# EAGLE library part TOUCH-AT42QT1070-SSU(SOIC14) (library Seeed-OPL-sensor)
310010048
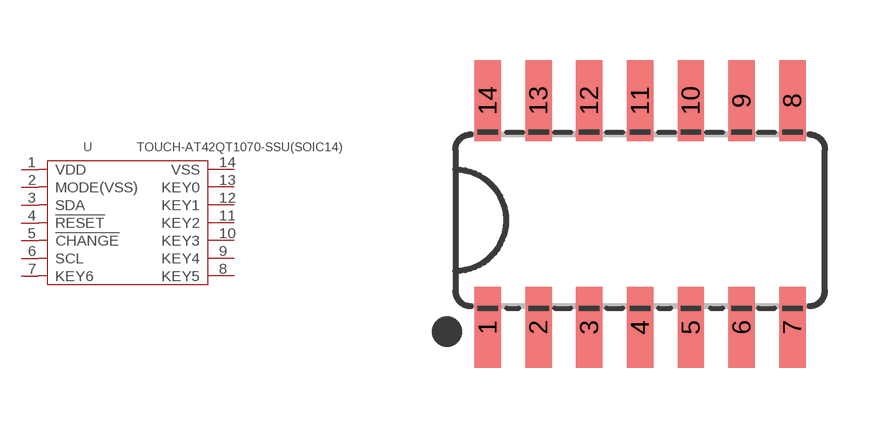
[diagram p17: symbol with the pads of SOIC14-1.27-9.3X4.3MM; footprint SOIC14-1.27-9.3X4.3MM]

Designator prefix U

## TOUCH-AT42QT1070-SSU(SOIC14) (MPN: AT42QT1070-SSU; VALUE: AT42QT1070-SSU)  [SOIC14-1.27-9.3X4.3MM]
1  VDD
2  MODE(VSS)
3  SDA
4  !RESET
5  !CHANGE
6  SCL
7  KEY6
8  KEY5
9  KEY4
10  KEY3
11  KEY2
12  KEY1
13  KEY0
14  VSS

## Footprint SOIC14-1.27-9.3X4.3MM (pad centres in mm)
smd 0.66 x 2.032: 1 -3.175,-2.68; 2 -1.905,-2.68; 3 -0.635,-2.68; 4 0.635,-2.68; 5 1.905,-2.68; 6 3.175,-2.68; 7 4.445,-2.68; 8 4.445,2.997; 9 3.175,2.997; 10 1.905,2.997; 11 0.635,2.997; 12 -0.635,2.997; 13 -1.905,2.997; 14 -3.175,2.997